# EAGLE library part GROVEGPS (library grove_gps_air530)
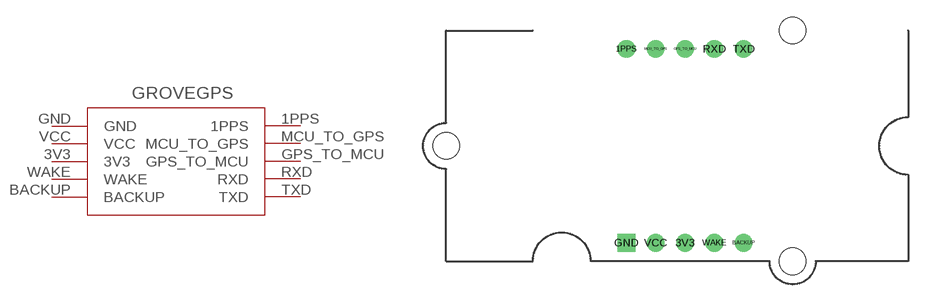
[diagram p0: symbol with the pads of GROVEGPS; footprint GROVEGPS]

Designator prefix GPS

## GROVEGPS  [GROVEGPS]
1PPS  1PPS
3V3  3V3
BACKUP  BACKUP
GND  GND
GPS_TO_MCU  GPS_TO_MCU
MCU_TO_GPS  MCU_TO_GPS
RXD  RXD
TXD  TXD
VCC  VCC
WAKE  WAKE

## Footprint GROVEGPS (pad centres in mm)
drill 1.02: 1PPS -4.4,8.4; 3V3 0.68,-8.4; BACKUP 5.76,-8.4; GPS_TO_MCU 0.68,8.4; MCU_TO_GPS -1.86,8.4; RXD 3.22,8.4; TXD 5.76,8.4; VCC -1.86,-8.4; WAKE 3.22,-8.4
drill 1.02 square: GND -4.4,-8.4
hole 2.3 at -20,0
hole 2.3 at 10,-10
hole 2.3 at 10,10